# Altium integrated library karman_Integrated_Library.IntLib: 101 symbols (part 2 of 3)
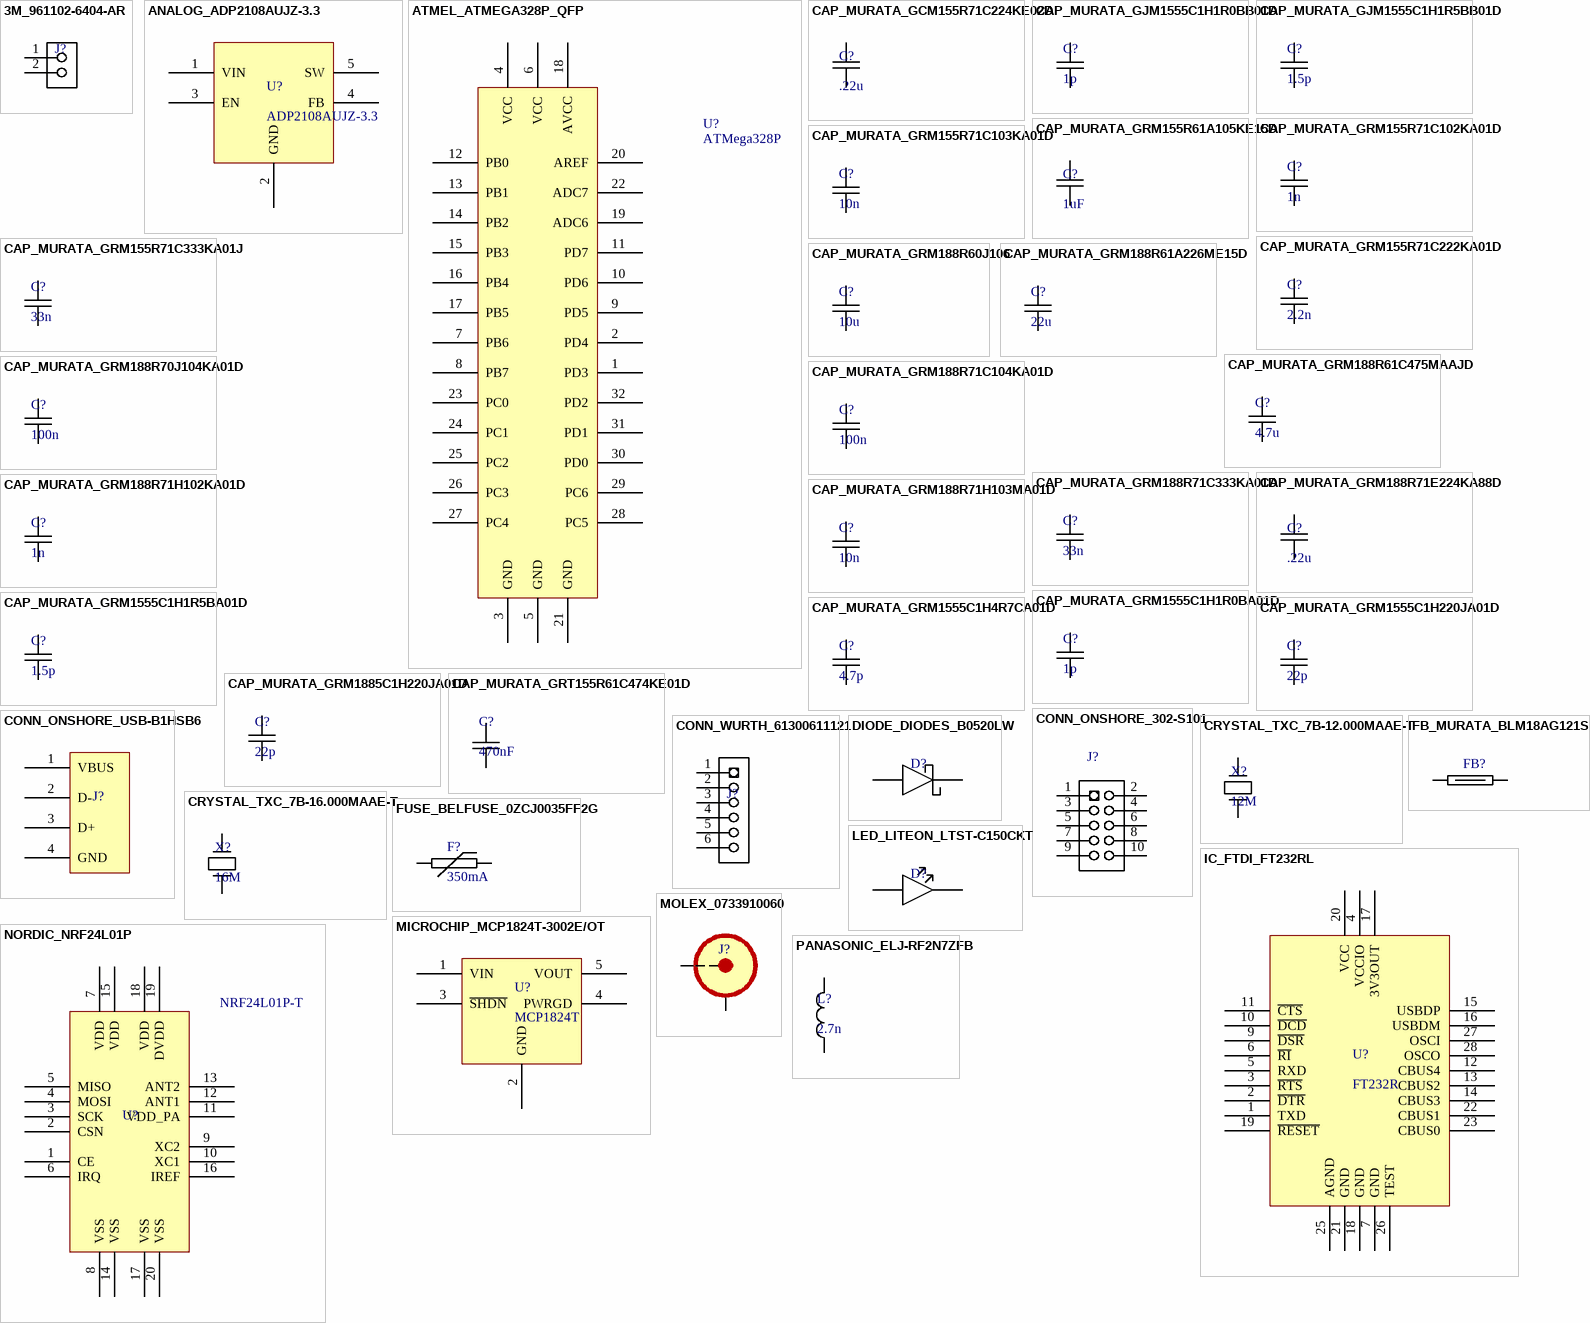
[diagram p4: symbols 3M_961102-6404-AR to PANASONIC_ELJ-RF2N7ZFB]

## CAP_MURATA_GRM155R71C102KA01D
designator C?, comment 1n
CAP CER 1000PF 16V 10% X7R 0402; Manufacturer: Murata Electronics North America; Manufacturer Part Number: GRM155R71C102KA01D; Temperature Coefficient: X7R; Thickness (Max): 0.022" (0.55mm); Packaging: Cut Tape (CT); Category: Capacitors; Applications: General Purpose; Features: -; Ratings: -; RoHS: RoHS Compliant; Supplier: Digi-Key; Capacitance: 1000pF; Lead Style: *; Size / Dimension: 0.039" L x 0.020" W (1.00mm x 0.50mm); Package / Case: 0402 (1005 Metric); Mounting Type: Surface Mount, MLCC; Operating Temperature: -55°C ~ 125°C; Supplier Part Number: 490-6325-1-ND; Height - Seated (Max): -; Tolerance: ±10%; Voltage - Rated: 16V; Lead Spacing: -
footprint MURATA_GRM_0402 (0402 Chip Capacitor)
pins: 1, 2

## CAP_MURATA_GRM155R71C103KA01D
designator C?, comment 10n
CAP CER 10000PF 16V 10% X7R 0402; Manufacturer: Murata Electronics North America; Manufacturer Part Number: GRM155R71C103KA01D; Supplier 1: Digi-Key; Supplier Part Number 1: 490-1313-1-ND; RoHS: RoHS Compliant; Category: Capacitors; Stock 1: 2877462; Pricing: 1=0.1, 10=0.012, 50=0.0066, 100=0.0057, 250=0.00464, 500=0.00396, 1000=0.00309, 5000=0.00258 (USD); Packaging: Cut Tape (CT); Capacitance: 10000pF; Tolerance: ±10%; Voltage - Rated: 16V; Temperature Coefficient: X7R; Mounting Type: Surface Mount, MLCC; Operating Temperature: -55°C ~ 125°C; Applications: General Purpose; Ratings: -; Package / Case: 0402 (1005 Metric); Size / Dimension: 0.039" L x 0.020" W (1.00mm x 0.50mm); Height - Seated (Max): -; Thickness (Max): 0.022" (0.55mm); Lead Spacing: -; Features: -; Lead Style: -; ComponentLink1URL: http://www.murata.com/~/media/webrenewal/support/library/catalog/products/capacitor/mlcc/c02e.ashx; ComponentLink1Description: http://www.murata.com/~/media/webrenewal/support/library/catalog/products/capacitor/mlcc/c02e.ashx
footprint MURATA_GRM_0402 (0402 Chip Capacitor)
pins: 1, 2

## CAP_MURATA_GRM155R71C222KA01D
designator C?, comment 2.2n
CAP CER 2200PF 16V 10% X7R 0402; Manufacturer: Murata Electronics North America; Manufacturer Part Number: GRM155R71C222KA01D; Supplier 1: Digi-Key; Supplier Part Number 1: 490-6330-1-ND; RoHS: RoHS Compliant; Category: Capacitors; Stock 1: 28283; Pricing: 1=0.1, 10=0.023, 25=0.016, 50=0.0124, 100=0.0105, 250=0.00856, 500=0.00732, 1000=0.0057, 5000=0.00475 (USD); Packaging: Cut Tape (CT); Capacitance: 2200pF; Tolerance: ±10%; Voltage - Rated: 16V; Temperature Coefficient: X7R; Mounting Type: Surface Mount, MLCC; Operating Temperature: -55°C ~ 125°C; Applications: General Purpose; Ratings: -; Package / Case: 0402 (1005 Metric); Size / Dimension: 0.039" L x 0.020" W (1.00mm x 0.50mm); Height - Seated (Max): -; Thickness (Max): 0.022" (0.55mm); Lead Spacing: -; Features: -; Lead Style: *; ComponentLink1URL: http://www.murata.com/~/media/webrenewal/support/library/catalog/products/capacitor/mlcc/c02e.ashx; ComponentLink1Description: http://www.murata.com/~/media/webrenewal/support/library/catalog/products/capacitor/mlcc/c02e.ashx
footprint MURATA_GRM_0402 (0402 Chip Capacitor)
pins: 1, 2

## CAP_MURATA_GRM155R71C333KA01J
designator C?, comment 33n
CAP CER 0.033UF 16V 10% X7R 0402; Manufacturer: Murata Electronics North America; Manufacturer Part Number: GRM155R71C333KA01J; Capacitance: 0.033µF; Supplier 1: Digi-Key; Supplier Part Number 1: 490-6333-1-ND; RoHS: RoHS Compliant; Category: Capacitors; Stock 1: 72036; Pricing: 1=0.1, 10=0.04, 50=0.0218, 100=0.0185, 250=0.01516, 500=0.01296, 1000=0.0099, 5000=0.00825, 10000=0.00759 (USD); Packaging: Cut Tape (CT); Tolerance: ±10%; Voltage - Rated: 16V; Temperature Coefficient: X7R; Mounting Type: Surface Mount, MLCC; Operating Temperature: -55°C ~ 125°C; Applications: General Purpose; Ratings: -; Package / Case: 0402 (1005 Metric); Size / Dimension: 0.039" L x 0.020" W (1.00mm x 0.50mm); Height - Seated (Max): -; Thickness (Max): 0.022" (0.55mm); Lead Spacing: -; Features: -; Lead Style: *; ComponentLink1URL: http://www.murata.com/~/media/webrenewal/support/library/catalog/products/capacitor/mlcc/c02e.ashx; ComponentLink1Description: http://www.murata.com/~/media/webrenewal/support/library/catalog/products/capacitor/mlcc/c02e.ashx
footprint MURATA_GRM_0402 (0402 Chip Capacitor)
pins: 1, 2

## CAP_MURATA_GRM188R60J106
designator C?, comment 10u
CAP CER 10UF 6.3V 20% X5R 0603; Manufacturer: Murata Electronics North America; Manufacturer Part Number: GRM188R60J106ME47J; Capacitance: 10µF; Supplier 1: Digi-Key; Supplier Part Number 1: 490-6405-1-ND; RoHS: RoHS Compliant; Category: Capacitors; Stock 1: 159118; Pricing: 1=0.19, 10=0.128, 50=0.0776, 100=0.0651, 250=0.05272, 500=0.0465, 1000=0.03953, 5000=0.03333 (USD); Packaging: Cut Tape (CT); Tolerance: ±20%; Voltage - Rated: 6.3V; Temperature Coefficient: X5R; Mounting Type: Surface Mount, MLCC; Operating Temperature: -55°C ~ 85°C; Applications: General Purpose; Ratings: -; Package / Case: 0603 (1608 Metric); Size / Dimension: 0.063" L x 0.031" W (1.60mm x 0.80mm); Height - Seated (Max): -; Thickness (Max): 0.035" (0.90mm); Lead Spacing: -; Features: -; Lead Style: -; ComponentLink1URL: http://www.murata.com/~/media/webrenewal/support/library/catalog/products/capacitor/mlcc/c02e.ashx; ComponentLink1Description: http://www.murata.com/~/media/webrenewal/support/library/catalog/products/capacitor/mlcc/c02e.ashx
footprint MURATA_GRM_0603 (Chip Capacitor, 0603)
pins: 1, 2

## CAP_MURATA_GRM188R61A226ME15D
designator C?, comment 22u
CAP CER 22UF 10V 20% X5R 0603; Manufacturer: Murata Electronics North America; Manufacturer Part Number: GRM188R61A226ME15D; Capacitance: 22µF; Supplier 1: Digi-Key; Supplier Part Number 1: 490-10476-1-ND; RoHS: RoHS Compliant; Category: Capacitors; Stock 1: 2895; Pricing: 1=0.3, 10=0.249, 25=0.1712, 50=0.14, 100=0.1244, 250=0.09332, 500=0.08242, 1000=0.07309 (USD); Packaging: Cut Tape (CT); Tolerance: ±20%; Voltage - Rated: 10V; Temperature Coefficient: X5R; Mounting Type: Surface Mount, MLCC; Operating Temperature: -55°C ~ 85°C; Applications: General Purpose; Ratings: -; Package / Case: 0603 (1608 Metric); Size / Dimension: 0.063" L x 0.031" W (1.60mm x 0.80mm); Height - Seated (Max): -; Thickness (Max): 0.039" (1.00mm); Lead Spacing: -; Features: -; Lead Style: -; ComponentLink1URL: http://www.murata.com/~/media/webrenewal/support/library/catalog/products/capacitor/mlcc/c02e.ashx; ComponentLink1Description: http://www.murata.com/~/media/webrenewal/support/library/catalog/products/capacitor/mlcc/c02e.ashx
footprint MURATA_GRM_0603 (Chip Capacitor, 0603)
pins: 1, 2

## CAP_MURATA_GRM188R61C475MAAJD
designator C?, comment 4.7u
CAP CER 4.7UF 16V 20% X5R 0603; Manufacturer: Murata Electronics North America; Manufacturer Part Number: GRM188R61C475MAAJD; Capacitance: 4.7µF; Supplier 1: Digi-Key; Supplier Part Number 1: 490-10482-1-ND; RoHS: RoHS Compliant; Category: Capacitors; Stock 1: 3465; Pricing: 1=0.3, 10=0.251, 25=0.1728, 50=0.1414, 100=0.1256, 250=0.0942, 500=0.08322, 1000=0.07379 (USD); Packaging: Cut Tape (CT); Tolerance: ±20%; Voltage - Rated: 16V; Temperature Coefficient: X5R; Mounting Type: Surface Mount, MLCC; Operating Temperature: -55°C ~ 85°C; Applications: General Purpose; Ratings: -; Package / Case: 0603 (1608 Metric); Size / Dimension: 0.063" L x 0.031" W (1.60mm x 0.80mm); Height - Seated (Max): -; Thickness (Max): 0.037" (0.95mm); Lead Spacing: -; Features: -; Lead Style: -; ComponentLink1URL: http://www.murata.com/~/media/webrenewal/support/library/catalog/products/capacitor/mlcc/c02e.ashx; ComponentLink1Description: http://www.murata.com/~/media/webrenewal/support/library/catalog/products/capacitor/mlcc/c02e.ashx
footprint MURATA_GRM_0603 (Chip Capacitor, 0603)
pins: 1, 2

## CAP_MURATA_GRM188R70J104KA01D
designator C?, comment 100n
CAP CER 0.1UF 6.3V 10% X7R 0603; Manufacturer: Murata Electronics North America; Manufacturer Part Number: GRM188R70J104KA01D; Capacitance: 0.1µF; Supplier 1: Digi-Key; Supplier Part Number 1: 490-9730-1-ND; RoHS: RoHS Compliant; Category: Capacitors; Stock 1: 25826; Pricing: 1=0.1, 10=0.061, 50=0.0332, 100=0.0281, 250=0.02296, 500=0.01964, 1000=0.0153 (USD); Packaging: Cut Tape (CT); Tolerance: ±10%; Voltage - Rated: 6.3V; Temperature Coefficient: X7R; Mounting Type: Surface Mount, MLCC; Operating Temperature: -55°C ~ 125°C; Applications: General Purpose; Ratings: -; Package / Case: 0603 (1608 Metric); Size / Dimension: 0.063" L x 0.031" W (1.60mm x 0.80mm); Height - Seated (Max): -; Thickness (Max): 0.035" (0.90mm); Lead Spacing: -; Features: -; Lead Style: -; ComponentLink1URL: http://www.murata.com/~/media/webrenewal/support/library/catalog/products/capacitor/mlcc/c02e.ashx; ComponentLink1Description: http://www.murata.com/~/media/webrenewal/support/library/catalog/products/capacitor/mlcc/c02e.ashx
footprint MURATA_GRM_0603 (Chip Capacitor, 0603)
pins: 1, 2

## CAP_MURATA_GRM188R71C104KA01D
designator C?, comment 100n
CAP CER 0.1UF 16V 10% X7R 0603; Manufacturer: Murata Electronics North America; Manufacturer Part Number: GRM188R71C104KA01D; Capacitance: 0.1µF; Supplier 1: Digi-Key; Supplier Part Number 1: 490-1532-1-ND; RoHS: RoHS Compliant; Category: Capacitors; Stock 1: 2486193; Pricing: 1=0.1, 10=0.019, 50=0.0102, 100=0.0086, 250=0.00704, 500=0.006, 1000=0.00468 (USD); Packaging: Cut Tape (CT); Tolerance: ±10%; Voltage - Rated: 16V; Temperature Coefficient: X7R; Mounting Type: Surface Mount, MLCC; Operating Temperature: -55°C ~ 125°C; Applications: General Purpose; Ratings: -; Package / Case: 0603 (1608 Metric); Size / Dimension: 0.063" L x 0.031" W (1.60mm x 0.80mm); Height - Seated (Max): -; Thickness (Max): 0.035" (0.90mm); Lead Spacing: -; Features: -; Lead Style: -; ComponentLink1URL: http://www.murata.com/~/media/webrenewal/support/library/catalog/products/capacitor/mlcc/c02e.ashx; ComponentLink1Description: http://www.murata.com/~/media/webrenewal/support/library/catalog/products/capacitor/mlcc/c02e.ashx
footprint MURATA_GRM_0603 (Chip Capacitor, 0603)
pins: 1, 2

## CAP_MURATA_GRM188R71C333KA01D
designator C?, comment 33n
CAP CER 0.033UF 16V 10% X7R 0603; Manufacturer: Murata Electronics North America; Manufacturer Part Number: GRM188R71C333KA01D; Capacitance: 0.033µF; Supplier 1: Digi-Key; Supplier Part Number 1: 490-1528-1-ND; RoHS: RoHS Compliant; Category: Capacitors; Stock 1: 112656; Pricing: 1=0.1, 10=0.054, 50=0.0292, 100=0.0248, 250=0.02024, 500=0.01732, 1000=0.0135 (USD); Packaging: Cut Tape (CT); Tolerance: ±10%; Voltage - Rated: 16V; Temperature Coefficient: X7R; Mounting Type: Surface Mount, MLCC; Operating Temperature: -55°C ~ 125°C; Applications: General Purpose; Ratings: -; Package / Case: 0603 (1608 Metric); Size / Dimension: 0.063" L x 0.031" W (1.60mm x 0.80mm); Height - Seated (Max): -; Thickness (Max): 0.035" (0.90mm); Lead Spacing: -; Features: -; Lead Style: -; ComponentLink1URL: http://www.murata.com/~/media/webrenewal/support/library/catalog/products/capacitor/mlcc/c02e.ashx; ComponentLink1Description: http://www.murata.com/~/media/webrenewal/support/library/catalog/products/capacitor/mlcc/c02e.ashx
footprint MURATA_GRM_0603 (Chip Capacitor, 0603)
pins: 1, 2

## CAP_MURATA_GRM188R71E224KA88D
designator C?, comment .22u
CAP CER 0.22UF 25V 10% X7R 0603; Manufacturer: Murata Electronics North America; Manufacturer Part Number: GRM188R71E224KA88D; Capacitance: 0.22µF; Supplier 1: Digi-Key; RoHS: RoHS Compliant; Category: Capacitors; Stock 1: 267892; Pricing 1: 1=0.14, 10=0.098, 50=0.0564, 100=0.0466, 250=0.0392, 500=0.03284, 1000=0.02695 (USD); Packaging: Cut Tape (CT); Tolerance: ±10%; Voltage - Rated: 25V; Temperature Coefficient: X7R; Mounting Type: Surface Mount, MLCC; Operating Temperature: -55°C ~ 125°C; Applications: General Purpose; Ratings: -; Package / Case: 0603 (1608 Metric); Size / Dimension: 0.063" L x 0.031" W (1.60mm x 0.80mm); Height - Seated (Max): -; Thickness (Max): 0.035" (0.90mm); Lead Spacing: -; Features: -; Lead Style: -; ComponentLink1URL: http://www.murata.com/~/media/webrenewal/support/library/catalog/products/capacitor/mlcc/c02e.ashx; ComponentLink1Description: http://www.murata.com/~/media/webrenewal/support/library/catalog/products/capacitor/mlcc/c02e.ashx; Supplier Part Number 1: 490-3290-1-ND
footprint MURATA_GRM_0603 (Chip Capacitor, 0603)
pins: 1, 2

## CAP_MURATA_GRM188R71H102KA01D
designator C?, comment 1n
CAP CER 1000PF 50V 10% X7R 0603; Manufacturer: Murata Electronics North America; Manufacturer Part Number: GRM188R71H102KA01D; Supplier 1: Digi-Key; Supplier Part Number 1: 490-1494-1-ND; RoHS: RoHS Compliant; Category: Capacitors; Stock 1: 1211591; Pricing: 1=0.1, 10=0.02, 50=0.0108, 100=0.0091, 250=0.00744, 500=0.00636, 1000=0.00495 (USD); Packaging: Cut Tape (CT); Capacitance: 1000pF; Tolerance: ±10%; Voltage - Rated: 50V; Temperature Coefficient: X7R; Mounting Type: Surface Mount, MLCC; Operating Temperature: -55°C ~ 125°C; Applications: General Purpose; Ratings: -; Package / Case: 0603 (1608 Metric); Size / Dimension: 0.063" L x 0.031" W (1.60mm x 0.80mm); Height - Seated (Max): -; Thickness (Max): 0.035" (0.90mm); Lead Spacing: -; Features: -; Lead Style: -; ComponentLink1URL: http://www.murata.com/~/media/webrenewal/support/library/catalog/products/capacitor/mlcc/c02e.ashx; ComponentLink1Description: http://www.murata.com/~/media/webrenewal/support/library/catalog/products/capacitor/mlcc/c02e.ashx
footprint MURATA_GRM_0603 (Chip Capacitor, 0603)
pins: 1, 2

## CAP_MURATA_GRM188R71H103MA01D
designator C?, comment 10n
CAP CER 10000PF 50V 20% X7R 0603; Manufacturer: Murata Electronics North America; Manufacturer Part Number: GRM188R71H103MA01D; Supplier 1: Digi-Key; Supplier Part Number 1: 490-1511-1-ND; RoHS: RoHS Compliant; Category: Capacitors; Stock 1: 188245; Pricing: 1=0.1, 10=0.018, 50=0.0098, 100=0.0083, 250=0.00676, 500=0.00578, 1000=0.0045 (USD); Packaging: Cut Tape (CT); Capacitance: 10000pF; Tolerance: ±20%; Voltage - Rated: 50V; Temperature Coefficient: X7R; Mounting Type: Surface Mount, MLCC; Operating Temperature: -55°C ~ 125°C; Applications: General Purpose; Ratings: -; Package / Case: 0603 (1608 Metric); Size / Dimension: 0.063" L x 0.031" W (1.60mm x 0.80mm); Height - Seated (Max): -; Thickness (Max): 0.035" (0.90mm); Lead Spacing: -; Features: -; Lead Style: -; ComponentLink1URL: http://www.murata.com/~/media/webrenewal/support/library/catalog/products/capacitor/mlcc/c02e.ashx; ComponentLink1Description: http://www.murata.com/~/media/webrenewal/support/library/catalog/products/capacitor/mlcc/c02e.ashx
footprint MURATA_GRM_0603 (Chip Capacitor, 0603)
pins: 1, 2

## CAP_MURATA_GRM1555C1H1R0BA01D
designator C?, comment 1p
CAP CER 1PF 50V NP0 0402; Manufacturer: Murata Electronics North America; Manufacturer Part Number: GRM1555C1H1R0BA01D; Tolerance: ±0.1pF; Temperature Coefficient: C0G, NP0; Supplier 1: Digi-Key; Supplier Part Number 1: 490-6206-1-ND; RoHS: RoHS Compliant; Category: Capacitors; Stock 1: 114290; Pricing: 1=0.1, 10=0.044, 50=0.0238, 100=0.0202, 250=0.01652, 500=0.01414, 1000=0.0108, 5000=0.009 (USD); Packaging: Cut Tape (CT); Capacitance: 1pF; Voltage - Rated: 50V; Mounting Type: Surface Mount, MLCC; Operating Temperature: -55°C ~ 125°C; Applications: General Purpose; Ratings: -; Package / Case: 0402 (1005 Metric); Size / Dimension: 0.039" L x 0.020" W (1.00mm x 0.50mm); Height - Seated (Max): -; Thickness (Max): 0.022" (0.55mm); Lead Spacing: -; Features: -; Lead Style: -; ComponentLink1URL: http://www.murata.com/~/media/webrenewal/support/library/catalog/products/capacitor/mlcc/c02e.ashx; ComponentLink1Description: http://www.murata.com/~/media/webrenewal/support/library/catalog/products/capacitor/mlcc/c02e.ashx
footprint MURATA_GRM_0402 (0402 Chip Capacitor)
pins: 1, 2

## CAP_MURATA_GRM1555C1H1R5BA01D
designator C?, comment 1.5p
CAP CER 1.5PF 50V NP0 0402; Manufacturer: Murata Electronics North America; Manufacturer Part Number: GRM1555C1H1R5BA01D; Tolerance: ±0.1pF; Temperature Coefficient: C0G, NP0; Supplier 1: Digi-Key; Supplier Part Number 1: 490-6212-1-ND; RoHS: RoHS Compliant; Category: Capacitors; Stock 1: 204956; Pricing: 1=0.1, 10=0.043, 50=0.0234, 100=0.0198, 250=0.0162, 500=0.01386, 1000=0.0108, 5000=0.009 (USD); Packaging: Cut Tape (CT); Capacitance: 1.5pF; Voltage - Rated: 50V; Mounting Type: Surface Mount, MLCC; Operating Temperature: -55°C ~ 125°C; Applications: General Purpose; Ratings: -; Package / Case: 0402 (1005 Metric); Size / Dimension: 0.039" L x 0.020" W (1.00mm x 0.50mm); Height - Seated (Max): -; Thickness (Max): 0.022" (0.55mm); Lead Spacing: -; Features: -; Lead Style: -; ComponentLink1URL: http://www.murata.com/~/media/webrenewal/support/library/catalog/products/capacitor/mlcc/c02e.ashx; ComponentLink1Description: http://www.murata.com/~/media/webrenewal/support/library/catalog/products/capacitor/mlcc/c02e.ashx
footprint MURATA_GRM_0402 (0402 Chip Capacitor)
pins: 1, 2

## CAP_MURATA_GRM1555C1H4R7CA01D
designator C?, comment 4.7p
CAP CER 4.7PF 50V NP0 0402; Manufacturer: Murata Electronics North America; Manufacturer Part Number: GRM1555C1H4R7CA01D; Tolerance: ±0.25pF; Temperature Coefficient: C0G, NP0; Supplier 1: Digi-Key; Supplier Part Number 1: 490-5874-1-ND; RoHS: RoHS Compliant; Category: Capacitors; Stock 1: 317555; Pricing: 1=0.1, 10=0.021, 50=0.0114, 100=0.0096, 250=0.00788, 500=0.00674, 1000=0.00525, 5000=0.00438 (USD); Packaging: Cut Tape (CT); Capacitance: 4.7pF; Voltage - Rated: 50V; Mounting Type: Surface Mount, MLCC; Operating Temperature: -55°C ~ 125°C; Applications: General Purpose; Ratings: -; Package / Case: 0402 (1005 Metric); Size / Dimension: 0.039" L x 0.020" W (1.00mm x 0.50mm); Height - Seated (Max): -; Thickness (Max): 0.022" (0.55mm); Lead Spacing: -; Features: -; Lead Style: -; ComponentLink1URL: http://www.murata.com/~/media/webrenewal/support/library/catalog/products/capacitor/mlcc/c02e.ashx; ComponentLink1Description: http://www.murata.com/~/media/webrenewal/support/library/catalog/products/capacitor/mlcc/c02e.ashx
footprint MURATA_GRM_0402 (0402 Chip Capacitor)
pins: 1, 2

## CAP_MURATA_GRM1555C1H220JA01D
designator C?, comment 22p
CAP CER 22PF 50V 5% NP0 0402; Manufacturer: Murata Electronics North America; Manufacturer Part Number: GRM1555C1H220JA01D; Temperature Coefficient: C0G, NP0; Supplier 1: Digi-Key; Supplier Part Number 1: 490-5868-1-ND; RoHS: RoHS Compliant; Category: Capacitors; Stock 1: 1716969; Pricing: 1=0.1, 10=0.013, 50=0.007, 100=0.0059, 250=0.00488, 500=0.00416, 1000=0.00324, 5000=0.0027 (USD); Packaging: Cut Tape (CT); Capacitance: 22pF; Tolerance: ±5%; Voltage - Rated: 50V; Mounting Type: Surface Mount, MLCC; Operating Temperature: -55°C ~ 125°C; Applications: General Purpose; Ratings: -; Package / Case: 0402 (1005 Metric); Size / Dimension: 0.039" L x 0.020" W (1.00mm x 0.50mm); Height - Seated (Max): -; Thickness (Max): 0.022" (0.55mm); Lead Spacing: -; Features: -; Lead Style: -; ComponentLink1URL: http://www.murata.com/~/media/webrenewal/support/library/catalog/products/capacitor/mlcc/c02e.ashx; ComponentLink1Description: http://www.murata.com/~/media/webrenewal/support/library/catalog/products/capacitor/mlcc/c02e.ashx
footprint MURATA_GRM_0402 (0402 Chip Capacitor)
pins: 1, 2

## CAP_MURATA_GRM1885C1H220JA01D
designator C?, comment 22p
CAP CER 22PF 50V 5% NP0 0603; Manufacturer: Murata Electronics North America; Manufacturer Part Number: GRM1885C1H220JA01D; Temperature Coefficient: C0G, NP0; Supplier 1: Digi-Key; Supplier Part Number 1: 490-1411-1-ND; RoHS: RoHS Compliant; Category: Capacitors; Stock 1: 287854; Pricing: 1=0.1, 10=0.041, 50=0.0222, 100=0.0188, 250=0.0154, 500=0.01316, 1000=0.01026 (USD); Packaging: Cut Tape (CT); Capacitance: 22pF; Tolerance: ±5%; Voltage - Rated: 50V; Mounting Type: Surface Mount, MLCC; Operating Temperature: -55°C ~ 125°C; Applications: General Purpose; Ratings: -; Package / Case: 0603 (1608 Metric); Size / Dimension: 0.063" L x 0.031" W (1.60mm x 0.80mm); Height - Seated (Max): -; Thickness (Max): 0.035" (0.90mm); Lead Spacing: -; Features: -; Lead Style: -; ComponentLink1URL: http://www.murata.com/~/media/webrenewal/support/library/catalog/products/capacitor/mlcc/c02e.ashx; ComponentLink1Description: http://www.murata.com/~/media/webrenewal/support/library/catalog/products/capacitor/mlcc/c02e.ashx
footprint MURATA_GRM_0603 (Chip Capacitor, 0603)
pins: 1, 2

## CAP_MURATA_GRT155R61C474KE01D
designator C?, comment 470nF
CAP CER 0.47UF 16V 10% X5R 0402; Manufacturer: Murata Electronics North America; Manufacturer Part Number: GRT155R61C474KE01D; Capacitance: 0.47µF; Supplier 1: Digi-Key; RoHS: RoHS Compliant; Category: Capacitors; Stock 1: 0; Pricing 1: 10000=0.01176, 20000=0.0112, 30000=0.01064, 50000=0.00952, 100000=0.0077 (USD); Packaging: Tape & Reel (TR); Tolerance: ±10%; Voltage - Rated: 16V; Temperature Coefficient: X5R; Mounting Type: Surface Mount, MLCC; Operating Temperature: -55°C ~ 85°C; Applications: Automotive; Ratings: AEC-Q200; Package / Case: 0402 (1005 Metric); Size / Dimension: 0.039" L x 0.020" W (1.00mm x 0.50mm); Height - Seated (Max): -; Thickness (Max): 0.022" (0.55mm); Lead Spacing: -; Features: -; Lead Style: -; ComponentLink1URL: http://search.murata.co.jp/Ceramy/image/img/A01X/G101/ENG/GRT155R61C474KE01-01.pdf; ComponentLink1Description: http://search.murata.co.jp/Ceramy/image/img/A01X/G101/ENG/GRT155R61C474KE01-01.pdf; Supplier Part Number 1: 490-12261-2-ND
footprint MURATA_GRM_0402 (0402 Chip Capacitor)
pins: 1, 2

## CONN_ONSHORE_302-S101
designator J?  (value not drawn)
CONN HEADER VERT 10POS GOLD; Manufacturer: On Shore Technology Inc; Manufacturer Part Number: 302-S101; Connector Type: Header, Shrouded; Number of Positions: 10; Number of Positions Loaded: All; Pitch: 0.100" (2.54mm); Supplier 1: Digi-Key; Supplier Part Number 1: ED1543-ND; RoHS: RoHS Compliant; Category: Connectors, Interconnects; Stock 1: 40779; Pricing: 1=0.28, 10=0.263, 50=0.1912, 100=0.1838, 250=0.165, 500=0.1575, 1000=0.13125, 2500=0.12, 5000=0.1125 (USD); Packaging: Tray; Contact Type: Male Pin; Number of Rows: 2; Row Spacing: 0.100" (2.54mm); Contact Mating Length: -; Mounting Type: Through Hole; Termination: Solder; Fastening Type: -; Features: -; Contact Finish: Gold; Contact Finish Thickness: Flash; Color: Black; ComponentLink1URL: http://www.on-shore.com/sites/default/files/manuals/302-sxxx.pdf; ComponentLink1Description: http://www.on-shore.com/sites/default/files/manuals/302-sxxx.pdf
footprint ONSHORE_302-S101 (2x5, 2.54mm pitch, connector)
pins: 1, 2, 3, 4, 5, 6, 7, 8, 9, 10

## CONN_ONSHORE_USB-B1HSB6
designator J?  (value not drawn)
CONN USB TYPE B R/A BLACK; Manufacturer: On Shore Technology Inc; Connector Type: USB - B; Number of Contacts: 4; Gender: Receptacle; Supplier 1: Digi-Key; Supplier Part Number 1: ED2983-ND; Manufacturer Part Number: USB-B1HSB6; RoHS: RoHS Compliant; Category: Connectors, Interconnects; Stock 1: 3776; Pricing: 1=0.58, 10=0.546, 25=0.4916, 50=0.4368, 100=0.4186, 250=0.3822, 500=0.364, 1000=0.3003, 2500=0.273 (USD); Packaging: Tray; Specifications: -; Mounting Type: Through Hole, Right Angle, Horizontal; Features: -; Ingress Protection: -; ComponentLink1URL: http://www.on-shore.com/sites/default/files/manuals/usb-b1hsxx.pdf; ComponentLink1Description: http://www.on-shore.com/sites/default/files/manuals/usb-b1hsxx.pdf
footprint ONSHORE_USB-B1HSB6 (USB, Type B)
pins: 1 VBUS, 2 D-, 3 D+, 4 GND

## CONN_WURTH_61300611121
designator J?  (value not drawn)
CONN HEADER 6 POS 2.54; Manufacturer: Wurth Electronics Inc; Manufacturer Part Number: 61300611121; Connector Type: Header, Unshrouded; Number of Positions: 6; Number of Positions Loaded: All; Pitch: 0.100" (2.54mm); Supplier 1: Digi-Key; Supplier Part Number 1: 732-5319-ND; RoHS: RoHS Compliant; Category: Connectors, Interconnects; Stock 1: 1064; Pricing: 1=0.31, 100=0.2808, 500=0.2376 (USD); Packaging: Bulk; Contact Type: Male Pin; Number of Rows: 1; Row Spacing: -; Contact Mating Length: 0.236" (6.00mm); Mounting Type: Through Hole; Termination: Solder; Fastening Type: -; Features: -; Contact Finish: Gold; Contact Finish Thickness: -; Color: Black; ComponentLink1URL: http://katalog.we-online.de/em/datasheet/6130xx11121.pdf; ComponentLink1Description: http://katalog.we-online.de/em/datasheet/6130xx11121.pdf
footprint WURTH_61300611121 (6 position, header)
pins: 1, 2, 3, 4, 5, 6

## CRYSTAL_TXC_7B-12.000MAAE-T
designator X?, comment 12M
Crystal 12.0000MHz 30ppm 12pF 40 Ohm -20°C - 70°C Surface Mount 4-SMD, No Lead (DFN, LCC); Manufacturer: TXC CORPORATION; Manufacturer Part Number: 7B-12.000MAAE-T; Frequency: 12MHz; ESR (Equivalent Series Resistance): 40 Ohm; Operating Mode: Fundamental; Supplier 1: Digi-Key; Supplier Part Number 1: 887-2355-1-ND; RoHS: RoHS Compliant; Category: Crystals and Oscillators; Stock 1: 1829; Pricing: 1=0.71, 10=0.629, 50=0.5876, 100=0.52, 500=0.4914 (USD); Packaging: Cut Tape (CT); Type: MHz Crystal; Frequency Stability: ±30ppm; Frequency Tolerance: ±30ppm; Load Capacitance: 12pF; Operating Temperature: -20°C ~ 70°C; Ratings: -; Mounting Type: Surface Mount; Package / Case: 4-SMD, No Lead (DFN, LCC); Size / Dimension: 0.197" L x 0.126" W (5.00mm x 3.20mm); Height: 0.041" (1.05mm); ComponentLink1URL: http://www.txccrystal.com/images/pdf/7b.pdf; ComponentLink1Description: http://www.txccrystal.com/images/pdf/7b.pdf
footprint TXC_7B_SERIES (Crystal)
pins: PAD hidden to GND, XTAL_N, XTAL_P

## CRYSTAL_TXC_7B-16.000MAAE-T
designator X?, comment 16M
CRYSTAL 16.0000MHZ 12PF SMD; Manufacturer: TXC CORPORATION; Manufacturer Part Number: 7B-16.000MAAE-T; Frequency: 16MHz; Frequency Stability: ±30ppm; ESR (Equivalent Series Resistance): 40 Ohm; Operating Mode: Fundamental; Supplier 1: Digi-Key; Supplier Part Number 1: 887-2358-1-ND; RoHS: RoHS Compliant; Category: Crystals and Oscillators; Stock 1: 1169; Pricing: 1=0.71, 10=0.629, 50=0.5876, 100=0.52, 500=0.4914 (USD); Packaging: Cut Tape (CT); Type: MHz Crystal; Frequency Tolerance: ±30ppm; Load Capacitance: 12pF; Operating Temperature: -20°C ~ 70°C; Ratings: -; Mounting Type: Surface Mount; Package / Case: 4-SMD, No Lead (DFN, LCC); Size / Dimension: 0.197" L x 0.126" W (5.00mm x 3.20mm); Height: 0.041" (1.05mm); ComponentLink1URL: http://www.txccrystal.com/images/pdf/7b.pdf; ComponentLink1Description: http://www.txccrystal.com/images/pdf/7b.pdf
footprint TXC_7B_SERIES (Crystal)
pins: PAD hidden to GND, XTAL_N, XTAL_P

## DIODE_DIODES_B0520LW
designator D?  (value not drawn)
DIODE SCHOTTKY 20V 500MA SOD123; Manufacturer: Diodes Incorporated; Manufacturer Part Number: B0520LW-7-F; Voltage - Forward (Vf) (Max) @ If: 385mV @ 500mA; Speed: Fast Recovery =< 500ns, > 200mA (Io); Current - Reverse Leakage @ Vr: 250µA @ 20V; Capacitance @ Vr, F: 170pF @ 0V, 1MHz; Supplier 1: Digi-Key; Supplier Part Number 1: B0520LW-FDICT-ND; RoHS: RoHS Compliant; Category: Discrete Semiconductor Products; Stock 1: 23024; Pricing: 1=0.34, 10=0.309, 25=0.2224, 100=0.173, 250=0.10872, 500=0.09264, 1000=0.06312 (USD); Packaging: Cut Tape (CT); Diode Type: Schottky; Voltage - DC Reverse (Vr) (Max): 20V; Current - Average Rectified (Io): 500mA; Reverse Recovery Time (trr): -; Mounting Type: Surface Mount; Package / Case: SOD-123; Supplier Device Package: SOD-123; Operating Temperature - Junction: -65°C ~ 125°C; ComponentLink1URL: http://www.diodes.com/datasheets/ds30051.pdf; ComponentLink1Description: http://www.diodes.com/datasheets/ds30051.pdf
footprint DIODES_B0520LW (DIODE SCHOTTKY)
pins: A, K

## FB_MURATA_BLM18AG121SN1D
designator FB?  (value not drawn)
FERRITE CHIP 120 OHM 500MA 0603; Manufacturer: Murata Electronics North America; Impedance @ Frequency: 120 Ohm @ 100MHz; DC Resistance (DCR): 180 mOhm Max; Filter Type: Differential Mode - Single; Supplier 1: Digi-Key; Supplier Part Number 1: 490-1011-1-ND; Manufacturer Part Number: BLM18AG121SN1D; RoHS: RoHS Compliant; Category: Filters; Stock 1: 179737; Pricing: 1=0.1, 10=0.079, 50=0.0648, 100=0.0476, 250=0.0346, 500=0.0317, 1000=0.02738 (USD); Packaging: Cut Tape (CT); Current Rating: 500mA; Package / Case: 0603 (1608 Metric); Mounting Type: Surface Mount; Height (Max): 0.037" (0.95mm); Size / Dimension: 0.063" L x 0.031" W (1.60mm x 0.80mm); ComponentLink1URL: http://search.murata.co.jp/Ceramy/image/img/PDF/ENG/L0110S0100BLM18A.pdf; ComponentLink1Description: http://search.murata.co.jp/Ceramy/image/img/PDF/ENG/L0110S0100BLM18A.pdf
footprint MURATA_BLM18A (Chip Ferrite Bead, 0603)
pins: 1, 2

## FUSE_BELFUSE_0ZCJ0035FF2G
designator F?, comment 350mA
PTC RESTTBLE 0.35A 16V CHIP 1206; Manufacturer: Bel Fuse Inc; Manufacturer Part Number: 0ZCJ0035FF2G; Current - Max: 40A; Current - Trip (It): 750mA; R Min/Max: 0.300 ~ 1.200 Ohm; Time to Trip: 0.1s; Supplier 1: Digi-Key; Supplier Part Number 1: 507-1800-1-ND; RoHS: RoHS Compliant; Category: Circuit Protection; Stock 1: 8842; Pricing: 1=0.12, 10=0.107, 25=0.0992, 100=0.0891, 250=0.0794, 500=0.06616, 1000=0.06269 (USD); Packaging: Cut Tape (CT); Voltage - Max: 16V; Current - Hold (Ih) (Max): 350mA; Package / Case: 1206 (3216 Metric), Concave; ComponentLink1URL: http://www.belfuse.com/pdfs/0ZCJ.pdf; ComponentLink1Description: http://www.belfuse.com/pdfs/0ZCJ.pdf
footprint BELFUSE_0ZCJ (PTC Fuse, 1206)
pins: 1, 2

## IC_FTDI_FT232RL
designator U?, comment FT232R
IC USB FS SERIAL UART 28-SSOP; Manufacturer: FTDI, Future Technology Devices International Ltd; Manufacturer Part Number: FT232RL-REEL; Function: Bridge, USB to UART; Standards: USB 2.0; Voltage - Supply: 3.3 V ~ 5.25 V; Current - Supply: 15mA; Supplier 1: Digi-Key; Supplier Part Number 1: 768-1007-1-ND; RoHS: RoHS Compliant; Category: Integrated Circuits (ICs); Stock 1: 155883; Pricing: 1=4.5, 10=4.05, 50=3.85, 100=3.65, 250=3.25, 500=3.05 (USD); Packaging: Cut Tape (CT); Protocol: USB; Interface: UART; Operating Temperature: -40°C ~ 85°C; Package / Case: 28-SSOP (0.209", 5.30mm Width); Supplier Device Package: 28-SSOP; ComponentLink1URL: http://www.ftdichip.com/Support/Documents/DataSheets/ICs/DS_FT232R.pdf; ComponentLink1Description: http://www.ftdichip.com/Support/Documents/DataSheets/ICs/DS_FT232R.pdf
footprint FTDI_FT323RL (SOP, 28-Leads, USB)
pins: 1 TXD, 2 ~{DTR}, 3 ~{RTS}, 4 VCCIO, 5 RXD, 6 ~{RI}, 7 GND, 8 NC hidden, 9 ~{DSR}, 10 ~{DCD}, 11 ~{CTS}, 12 CBUS4, 13 CBUS2, 14 CBUS3, 15 USBDP, 16 USBDM, 17 3V3OUT, 18 GND, 19 ~{RESET}, 20 VCC, 21 GND, 22 CBUS1, 23 CBUS0, 24 NC hidden, 25 AGND, 26 TEST, 27 OSCI, 28 OSCO

## LED_LITEON_LTST-C150CKT
designator D?  (value not drawn)
LED RED CLEAR 1206 SMD; Manufacturer: Lite-On Inc; Manufacturer Part Number: LTST-C150CKT; Wavelength - Dominant: 638nm; Wavelength - Peak: 660nm; Millicandela Rating: 10mcd; Voltage - Forward (Vf) (Typ): 1.8V; Current - Test: 10mA; Viewing Angle: 130°; Lens Color: Colorless; Lens Style/Size: Rectangle with Flat Top, 2.06mm x 1.60mm; Supplier 1: Digi-Key; Supplier Part Number 1: 160-1167-1-ND; RoHS: RoHS Compliant; Category: Optoelectronics; Stock 1: 90600; Pricing: 1=0.4, 10=0.297, 100=0.1574, 250=0.11136, 500=0.09504, 1000=0.07425 (USD); Packaging: Cut Tape (CT); Color: Red; Lens Transparency: Clear; Package / Case: 1206 (3216 Metric); Supplier Device Package: 1206; Size / Dimension: 3.20mm L x 1.60mm W; Height (Max): 1.10mm; Mounting Type: Surface Mount; ComponentLink1URL: http://optoelectronics.liteon.com/upload/download/DS-22-98-0002/S_110_LTST-C150CKT.pdf; ComponentLink1Description: http://optoelectronics.liteon.com/upload/download/DS-22-98-0002/S_110_LTST-C150CKT.pdf
footprint LITEON_LTST-C150 (1206, Chip LED)
pins: A, K

## MICROCHIP_MCP1824T-3002E/OT
designator U?, comment MCP1824T
IC REG LDO 3V 0.3A SOT23-5; Manufacturer: Microchip Technology; Manufacturer Part Number: MCP1824T-3002E/OT; Regulator Topology: Positive Fixed; Current - Output: 300mA; Voltage - Dropout (Typical): 0.2V @ 300mA; Number of Regulators: 1; Voltage - Input: Up to 6V; Supplier 1: Digi-Key; Supplier Part Number 1: MCP1824T-3002E/OTCT-ND; RoHS: RoHS Compliant; Category: Integrated Circuits (ICs); Stock 1: 1253; Pricing: 1=0.5, 10=0.42, 25=0.35, 100=0.32 (USD); Packaging: Cut Tape (CT); Voltage - Output: 3V; Current - Limit (Min): -; Operating Temperature: -40°C ~ 125°C; Mounting Type: Surface Mount; Package / Case: SC-74A, SOT-753; Supplier Device Package: SOT-23-5; ComponentLink1URL: http://www.microchip.com/mymicrochip/filehandler.aspx?ddocname=en533257; ComponentLink1Description: http://www.microchip.com/mymicrochip/filehandler.aspx?ddocname=en533257
footprint MICROCHIP_MCP1824/OE (LDO Regulator, SOT23)
pins: 1 VIN, 2 GND, 3 ~{SHDN}, 4 PWRGD, 5 VOUT

## MOLEX_0733910060
designator J?  (value not drawn)
CONN SMA JACK STR 50 OHM PCB; Manufacturer: Molex Inc; Connector Type: Jack, Female Socket; Contact Termination: Solder; Impedance: 50 Ohm; Frequency - Max: 18GHz; Body Material: Brass; Body Finish: Gold; Center Contact Material: Beryllium Copper; Dielectric Material: Polytetrafluoroethylene (PTFE); Voltage Rating: 500V; Supplier 1: Digi-Key; Supplier Part Number 1: WM5543-ND; Manufacturer Part Number: 0733910060; RoHS: RoHS Compliant; Category: Connectors, Interconnects; Stock 1: 6663; Pricing: 1=2.99, 10=2.87, 25=2.6308, 50=2.5114, 100=2.3918, 250=2.09284, 500=2.03304, 1000=1.73406, 2500=1.61446 (USD); Packaging: Bulk; Connector Style: SMA; Shield Termination: Solder; Mounting Type: Through Hole; Cable Group: -; Fastening Type: Threaded; Features: -; Housing Color: Gold; Ingress Protection: -; Center Contact Plating: Gold; Operating Temperature: -65°C ~ 165°C; ComponentLink1URL: http://www.molex.com/pdm_docs/sd/733910060_sd.pdf; ComponentLink1Description: http://www.molex.com/pdm_docs/sd/733910060_sd.pdf
footprint MOLEX_0733910060 (SMA Connector)
pins: PIN, SHIELD

## NORDIC_NRF24L01P
designator U?  Manufacturer Part Number: NRF24L01P-T
IC RF TRANSCEIVER 2.4GHZ 20QFN; Manufacturer: Nordic Semiconductor ASA; Data Rate (Max): 2Mbps; Modulation or Protocol: GFSK; Power - Output: 0dBm; Sensitivity: -94dBm; Voltage - Supply: 1.9 V ~ 3.6 V; Current - Receiving: 13.5mA; Current - Transmitting: 11.3mA; Data Interface: PCB, Surface Mount; Supplier 1: Digi-Key; Supplier Part Number 1: 1490-1019-ND; RoHS: RoHS Compliant; Category: RF/IF and RFID; Stock 1: 2933; Pricing: 1=3.39, 10=3.03, 50=2.727, 100=2.4846, 250=2.2422, 500=2.01192, 1000=1.6968, 2500=1.61196, 5000=1.5453 (USD); Packaging: Tray; Frequency: 2.4GHz; Applications: General Purpose; Memory Size: -; Antenna Connector: PCB, Surface Mount; Operating Temperature: -40°C ~ 85°C; Package / Case: 20-VFQFN Exposed Pad; ComponentLink1URL: http://www.nordicsemi.com/eng/content/download/2726/34069/file/nRF24L01P_Product_Specification_1_0.pdf; ComponentLink1Description: http://www.nordicsemi.com/eng/content/download/2726/34069/file/nRF24L01P_Product_Specification_1_0.pdf
footprint NORDIC_nRF24L01P
pins: 1 CE, 2 CSN, 3 SCK, 4 MOSI, 5 MISO, 6 IRQ, 7 VDD, 8 VSS, 9 XC2, 10 XC1, 11 VDD_PA, 12 ANT1, 13 ANT2, 14 VSS, 15 VDD, 16 IREF, 17 VSS, 18 VDD, 19 DVDD, 20 VSS

## PANASONIC_ELJ-RF2N7ZFB
designator L?, comment 2.7n
FIXED IND 2.7NH 400MA 100 MOHM; Manufacturer: Panasonic Electronic Components; Manufacturer Part Number: ELJ-RF2N7ZFB; Type: Multilayer; Material - Core: Non-Magnetic; Tolerance: ±0.2nH; Shielding: Unshielded; DC Resistance (DCR): 100 mOhm Max; Q @ Freq: 8 @ 100MHz; Frequency - Self Resonant: 5.5GHz; Frequency - Test: 100MHz; Supplier 1: Digi-Key; Supplier Part Number 1: PCD1903CT-ND; RoHS: RoHS Compliant; Category: Inductors, Coils, Chokes; Stock 1: 8911; Pricing: 1=0.1, 10=0.097, 50=0.0908, 100=0.0847, 500=0.06656 (USD); Packaging: Cut Tape (CT); Inductance: 2.7nH; Current Rating: 400mA; Current - Saturation: -; Operating Temperature: -20°C ~ 85°C; Mounting Type: Surface Mount; Package / Case: 0402 (1005 Metric); Size / Dimension: 0.040" L x 0.024" W (1.00mm x 0.50mm); Height - Seated (Max): 0.022" (0.55mm); Supplier Device Package: 0402 (1005 Metric); ComponentLink1URL: http://industrial.panasonic.com/www-cgi/jvcr13pz.cgi?E+PZ+3+AGA0024+ELJRF2N7ZFB+7+WW; ComponentLink1Description: http://industrial.panasonic.com/www-cgi/jvcr13pz.cgi?E+PZ+3+AGA0024+ELJRF2N7ZFB+7+WW
footprint PANASONIC_ELJRF (Chip Inductor)
pins: 1, 2

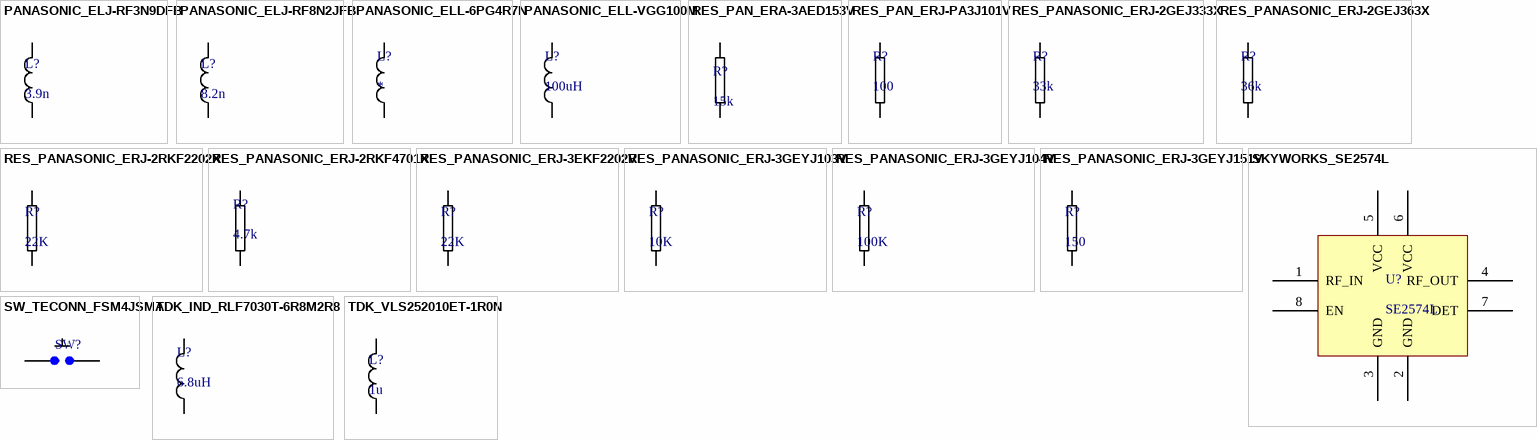
[diagram p3: symbols PANASONIC_ELJ-RF3N9DFB to TDK_VLS252010ET-1R0N]

## PANASONIC_ELJ-RF3N9DFB
designator L?, comment 3.9n
FIXED IND 3.9NH 360MA 150 MOHM; Manufacturer: Panasonic Electronic Components; Manufacturer Part Number: ELJ-RF3N9DFB; Type: Multilayer; Material - Core: Non-Magnetic; Tolerance: ±0.3nH; Shielding: Unshielded; DC Resistance (DCR): 150 mOhm Max; Q @ Freq: 8 @ 100MHz; Frequency - Self Resonant: 5.2GHz; Frequency - Test: 100MHz; Supplier 1: Digi-Key; Supplier Part Number 1: PCD1930CT-ND; RoHS: RoHS Compliant; Category: Inductors, Coils, Chokes; Stock 1: 11359; Pricing: 1=0.08, 10=0.074, 50=0.0698, 100=0.0651, 500=0.05116 (USD); Packaging: Cut Tape (CT); Inductance: 3.9nH; Current Rating: 360mA; Current - Saturation: -; Operating Temperature: -20°C ~ 85°C; Mounting Type: Surface Mount; Package / Case: 0402 (1005 Metric); Size / Dimension: 0.040" L x 0.024" W (1.00mm x 0.50mm); Height - Seated (Max): 0.022" (0.55mm); Supplier Device Package: 0402 (1005 Metric); ComponentLink1URL: http://industrial.panasonic.com/www-cgi/jvcr13pz.cgi?E+PZ+3+AGA0024+ELJRF3N9DFB+7+WW; ComponentLink1Description: http://industrial.panasonic.com/www-cgi/jvcr13pz.cgi?E+PZ+3+AGA0024+ELJRF3N9DFB+7+WW
footprint PANASONIC_ELJRF (Chip Inductor)
pins: 1, 2

## PANASONIC_ELJ-RF8N2JFB
designator L?, comment 8.2n
FIXED IND 8.2NH 320MA 350 MOHM; Manufacturer: Panasonic Electronic Components; Manufacturer Part Number: ELJ-RF8N2JFB; Type: Multilayer; Material - Core: Non-Magnetic; Tolerance: ±5%; Shielding: Unshielded; DC Resistance (DCR): 350 mOhm Max; Q @ Freq: 8 @ 100MHz; Frequency - Self Resonant: 3.5GHz; Frequency - Test: 100MHz; Supplier 1: Digi-Key; Supplier Part Number 1: PCD1934CT-ND; RoHS: RoHS Compliant; Category: Inductors, Coils, Chokes; Stock 1: 26730; Pricing: 1=0.08, 10=0.074, 50=0.0698, 100=0.0651, 500=0.05116 (USD); Packaging: Cut Tape (CT); Inductance: 8.2nH; Current Rating: 320mA; Current - Saturation: -; Operating Temperature: -20°C ~ 85°C; Mounting Type: Surface Mount; Package / Case: 0402 (1005 Metric); Size / Dimension: 0.040" L x 0.024" W (1.00mm x 0.50mm); Height - Seated (Max): 0.022" (0.55mm); Supplier Device Package: 0402 (1005 Metric); ComponentLink1URL: http://industrial.panasonic.com/www-cgi/jvcr13pz.cgi?E+PZ+3+AGA0024+ELJRF8N2JFB+7+WW; ComponentLink1Description: http://industrial.panasonic.com/www-cgi/jvcr13pz.cgi?E+PZ+3+AGA0024+ELJRF8N2JFB+7+WW
footprint PANASONIC_ELJRF (Chip Inductor)
pins: 1, 2

## PANASONIC_ELL-6PG4R7N
designator L?
FIXED IND 4.7UH 1.75A 58 MOHM; Manufacturer: Panasonic Electronic Components; Manufacturer Part Number: ELL-6PG4R7N; Type: Wirewound; Inductance: 4.7µH; Tolerance: ±30%; Current - Saturation: 1.5A; Shielding: Shielded; DC Resistance (DCR): 58 mOhm; Frequency - Test: 100kHz; Supplier 1: Digi-Key; RoHS: RoHS Compliant; Category: Inductors, Coils, Chokes; Stock 1: 6976; Pricing 1: 1=0.82, 10=0.776, 50=0.7276, 100=0.679, 500=0.5335 (USD); Packaging: Cut Tape (CT); Material - Core: -; Current Rating: 1.75A; Q @ Freq: -; Frequency - Self Resonant: -; Operating Temperature: -; Mounting Type: Surface Mount; Package / Case: Nonstandard; Size / Dimension: 0.236" L x 0.236" W (6.00mm x 6.00mm); Height - Seated (Max): 0.079" (2.00mm); Supplier Device Package: -; ComponentLink1URL: http://industrial.panasonic.com/www-cgi/jvcr13pz.cgi?E+PZ+2+AGM0013+0+4+WW; ComponentLink1Description: http://industrial.panasonic.com/www-cgi/jvcr13pz.cgi?E+PZ+2+AGM0013+0+4+WW; Supplier Part Number 1: PCD2262CT-ND
pins: 1, 2

## PANASONIC_ELL-VGG100M
designator L?, comment 100uH
FIXED IND 10UH 730MA 280 MOHM; Manufacturer: Panasonic Electronic Components; Manufacturer Part Number: ELL-VGG100M; Type: Wirewound; Inductance: 10µH; Tolerance: ±20%; Current - Saturation: 800mA; Shielding: Shielded; Frequency - Test: 100kHz; Supplier 1: Digi-Key; RoHS: RoHS Compliant; Category: Inductors, Coils, Chokes; Stock 1: 21071; Pricing 1: 1=0.48, 10=0.455, 50=0.4264, 100=0.398, 500=0.31268 (USD); Packaging: Cut Tape (CT); Material - Core: -; Current Rating: 730mA; DC Resistance (DCR): 280 mOhm; Q @ Freq: -; Frequency - Self Resonant: -; Operating Temperature: -; Mounting Type: Surface Mount; Package / Case: Nonstandard; Size / Dimension: 0.118" L x 0.118" W (3.00mm x 3.00mm); Height - Seated (Max): 0.059" (1.50mm); Supplier Device Package: -; ComponentLink1URL: http://industrial.panasonic.com/www-cgi/jvcr13pz.cgi?E+PZ+2+AGM0001+0+4+WW; ComponentLink1Description: http://industrial.panasonic.com/www-cgi/jvcr13pz.cgi?E+PZ+2+AGM0001+0+4+WW; Supplier Part Number 1: PCD2304CT-ND
pins: 1, 2

## RES_PAN_ERA-3AED153V
designator R?, comment 15k
RES SMD 15K OHM 0.5% 1/10W 0603; Manufacturer: Panasonic Electronic Components; Manufacturer Part Number: ERA-3AED153V; Power (Watts): 0.1W, 1/10W; Temperature Coefficient: ±25ppm/°C; Supplier 1: Digi-Key; RoHS: RoHS Compliant; Category: Resistors; Stock 1: 5000; Pricing 1: 5000=0.01558, 10000=0.01353, 25000=0.01189, 50000=0.01091, 125000=0.01068 (USD); Packaging: Tape & Reel (TR); Resistance (Ohms): 15k; Tolerance: ±0.5%; Composition: Thin Film; Features: Automotive AEC-Q200; Operating Temperature: -55°C ~ 155°C; Package / Case: 0603 (1608 Metric); Supplier Device Package: 0603; Size / Dimension: 0.063" L x 0.031" W (1.60mm x 0.80mm); Height: 0.022" (0.55mm); Number of Terminations: 2; ComponentLink1URL: http://industrial.panasonic.com/lecs/www-data/pdf/AOA0000/AOA0000CE26.pdf; ComponentLink1Description: http://industrial.panasonic.com/lecs/www-data/pdf/AOA0000/AOA0000CE26.pdf; Supplier Part Number 1: P15KBLTR-ND
pins: 1, 2

## RES_PAN_ERJ-PA3J101V
designator R?, comment 100
RES SMD 100 OHM 5% 1/4W 0603; Manufacturer: Panasonic Electronic Components; Manufacturer Part Number: ERJ-PA3J101V; Power (Watts): 0.25W, 1/4W; Temperature Coefficient: ±200ppm/°C; Supplier 1: Digi-Key; RoHS: RoHS Compliant; Category: Resistors; Stock 1: 0; Pricing 1: 5000=0.01156, 10000=0.01037, 25000=0.00952, 50000=0.00894, 125000=0.00874 (USD); Packaging: Tape & Reel (TR); Resistance (Ohms): 100; Tolerance: ±5%; Composition: Thick Film; Features: Automotive AEC-Q200, Pulse Withstanding; Operating Temperature: -55°C ~ 155°C; Package / Case: 0603 (1608 Metric); Supplier Device Package: 0603; Size / Dimension: 0.063" L x 0.031" W (1.60mm x 0.80mm); Height: 0.018" (0.45mm); Number of Terminations: 2; ComponentLink1URL: http://industrial.panasonic.com/www-cgi/jvcr17pz.cgi?E+PZ+4+AOA0004+ERJPA3J101V+WW; ComponentLink1Description: http://industrial.panasonic.com/www-cgi/jvcr17pz.cgi?E+PZ+4+AOA0004+ERJPA3J101V+WW; Supplier Part Number 1: P100BZTR-ND
pins: 1, 2

## RES_PANASONIC_ERJ-2GEJ333X
designator R?, comment 33k
RES SMD 33K OHM 5% 1/10W 0402; Manufacturer: Panasonic Electronic Components; Manufacturer Part Number: ERJ-2GEJ333X; Power (Watts): 0.1W, 1/10W; Temperature Coefficient: ±200ppm/°C; Supplier 1: Digi-Key; RoHS: RoHS Compliant; Category: Resistors; Stock 1: 860000; Pricing 1: 10000=0.00198, 30000=0.00174, 50000=0.0016, 100000=0.00156 (USD); Packaging: Tape & Reel (TR); Resistance (Ohms): 33k; Tolerance: ±5%; Composition: Thick Film; Features: Automotive AEC-Q200; Operating Temperature: -55°C ~ 155°C; Package / Case: 0402 (1005 Metric); Supplier Device Package: 0402; Size / Dimension: 0.039" L x 0.020" W (1.00mm x 0.50mm); Height: 0.016" (0.40mm); Number of Terminations: 2; ComponentLink1URL: http://industrial.panasonic.com/www-cgi/jvcr13pz.cgi?E+PZ+3+AOA0001+ERJ2GEJ333X+7+WW; ComponentLink1Description: http://industrial.panasonic.com/www-cgi/jvcr13pz.cgi?E+PZ+3+AOA0001+ERJ2GEJ333X+7+WW; Supplier Part Number 1: P33KJTR-ND
pins: 1, 2

## RES_PANASONIC_ERJ-2GEJ363X
designator R?, comment 36k
RES SMD 36K OHM 5% 1/10W 0402; Manufacturer: Panasonic Electronic Components; Manufacturer Part Number: ERJ-2GEJ363X; Power (Watts): 0.1W, 1/10W; Temperature Coefficient: ±200ppm/°C; Supplier 1: Digi-Key; RoHS: RoHS Compliant; Category: Resistors; Stock 1: 20000; Pricing 1: 10000=0.00198, 30000=0.00174, 50000=0.0016, 100000=0.00156 (USD); Packaging: Tape & Reel (TR); Resistance (Ohms): 36k; Tolerance: ±5%; Composition: Thick Film; Features: Automotive AEC-Q200; Operating Temperature: -55°C ~ 155°C; Package / Case: 0402 (1005 Metric); Supplier Device Package: 0402; Size / Dimension: 0.039" L x 0.020" W (1.00mm x 0.50mm); Height: 0.016" (0.40mm); Number of Terminations: 2; ComponentLink1URL: http://industrial.panasonic.com/www-cgi/jvcr13pz.cgi?E+PZ+3+AOA0001+ERJ2GEJ363X+7+WW; ComponentLink1Description: http://industrial.panasonic.com/www-cgi/jvcr13pz.cgi?E+PZ+3+AOA0001+ERJ2GEJ363X+7+WW; Supplier Part Number 1: P36KJTR-ND
pins: 1, 2

## RES_PANASONIC_ERJ-2RKF2202X
designator R?, comment 22K
RES SMD 22K OHM 1% 1/10W 0402; Manufacturer: Panasonic Electronic Components; Manufacturer Part Number: ERJ-2RKF2202X; Power (Watts): 0.1W, 1/10W; Temperature Coefficient: ±100ppm/°C; Supplier 1: Digi-Key; Supplier Part Number 1: P22.0KLCT-ND; RoHS: RoHS Compliant; Category: Resistors; Stock 1: 557271; Pricing: 1=0.1, 50=0.015, 100=0.011, 250=0.0084, 500=0.00674, 1000=0.00496, 5000=0.00355 (USD); Packaging: Cut Tape (CT); Resistance (Ohms): 22k; Tolerance: ±1%; Composition: Thick Film; Features: Automotive AEC-Q200; Operating Temperature: -55°C ~ 155°C; Package / Case: 0402 (1005 Metric); Supplier Device Package: 0402; Size / Dimension: 0.039" L x 0.020" W (1.00mm x 0.50mm); Height: 0.016" (0.40mm); Number of Terminations: 2; ComponentLink1URL: http://industrial.panasonic.com/www-cgi/jvcr13pz.cgi?E+PZ+3+AOA0002+ERJ2RKF2202X+7+WW; ComponentLink1Description: http://industrial.panasonic.com/www-cgi/jvcr13pz.cgi?E+PZ+3+AOA0002+ERJ2RKF2202X+7+WW
footprint PANASONIC_ERJ2R_SERIES (0402 Resistor)
pins: 1, 2

## RES_PANASONIC_ERJ-2RKF4701X
designator R?, comment 4.7k
RES SMD 4.7K OHM 1% 1/10W 0402; Manufacturer: Panasonic Electronic Components; Manufacturer Part Number: ERJ-2RKF4701X; Power (Watts): 0.1W, 1/10W; Temperature Coefficient: ±100ppm/°C; Supplier 1: Digi-Key; RoHS: RoHS Compliant; Category: Resistors; Stock 1: 2910000; Pricing 1: 10000=0.00281, 30000=0.00247, 50000=0.00226, 100000=0.00222 (USD); Packaging: Tape & Reel (TR); Resistance (Ohms): 4.7k; Tolerance: ±1%; Composition: Thick Film; Features: Automotive AEC-Q200; Operating Temperature: -55°C ~ 155°C; Package / Case: 0402 (1005 Metric); Supplier Device Package: 0402; Size / Dimension: 0.039" L x 0.020" W (1.00mm x 0.50mm); Height: 0.016" (0.40mm); Number of Terminations: 2; ComponentLink1URL: http://industrial.panasonic.com/www-cgi/jvcr13pz.cgi?E+PZ+3+AOA0002+ERJ2RKF4701X+7+WW; ComponentLink1Description: http://industrial.panasonic.com/www-cgi/jvcr13pz.cgi?E+PZ+3+AOA0002+ERJ2RKF4701X+7+WW; Supplier Part Number 1: P4.70KLTR-ND
footprint PANASONIC_ERJ2R_SERIES (0402 Resistor)
pins: 1, 2

## RES_PANASONIC_ERJ-3EKF2202V
designator R?, comment 22K
RES SMD 22K OHM 1% 1/10W 0603; Manufacturer: Panasonic Electronic Components; Manufacturer Part Number: ERJ-3EKF2202V; Power (Watts): 0.1W, 1/10W; Temperature Coefficient: ±100ppm/°C; Supplier 1: Digi-Key; Supplier Part Number 1: P22.0KHCT-ND; RoHS: RoHS Compliant; Category: Resistors; Stock 1: 17812; Pricing: 1=0.1, 50=0.0114, 100=0.0084, 250=0.00644, 500=0.00514, 1000=0.00379 (USD); Packaging: Cut Tape (CT); Resistance (Ohms): 22k; Tolerance: ±1%; Composition: Thick Film; Features: Automotive AEC-Q200; Operating Temperature: -55°C ~ 155°C; Package / Case: 0603 (1608 Metric); Supplier Device Package: 0603; Size / Dimension: 0.063" L x 0.031" W (1.60mm x 0.80mm); Height: 0.022" (0.55mm); Number of Terminations: 2; ComponentLink1URL: http://industrial.panasonic.com/www-cgi/jvcr13pz.cgi?E+PZ+3+AOA0002+ERJ3EKF2202V+7+WW; ComponentLink1Description: http://industrial.panasonic.com/www-cgi/jvcr13pz.cgi?E+PZ+3+AOA0002+ERJ3EKF2202V+7+WW
footprint PANASONIC_ERJ3R (Chip Resistor, 0603)
pins: 1, 2

## RES_PANASONIC_ERJ-3GEYJ103V
designator R?, comment 10K
RES SMD 10K OHM 5% 1/10W 0603; Manufacturer: Panasonic Electronic Components; Manufacturer Part Number: ERJ-3GEYJ103V; Power (Watts): 0.1W, 1/10W; Temperature Coefficient: ±200ppm/°C; Supplier 1: Digi-Key; Supplier Part Number 1: P10KGCT-ND; RoHS: RoHS Compliant; Category: Resistors; Stock 1: 4229597; Pricing: 1=0.1, 50=0.0096, 100=0.0071, 250=0.00544, 500=0.00436, 1000=0.00321 (USD); Packaging: Cut Tape (CT); Resistance (Ohms): 10k; Tolerance: ±5%; Composition: Thick Film; Features: Automotive AEC-Q200; Operating Temperature: -55°C ~ 155°C; Package / Case: 0603 (1608 Metric); Supplier Device Package: 0603; Size / Dimension: 0.063" L x 0.031" W (1.60mm x 0.80mm); Height: 0.022" (0.55mm); Number of Terminations: 2; ComponentLink1URL: http://industrial.panasonic.com/www-cgi/jvcr13pz.cgi?E+PZ+3+AOA0001+ERJ3GEYJ103V+7+WW; ComponentLink1Description: http://industrial.panasonic.com/www-cgi/jvcr13pz.cgi?E+PZ+3+AOA0001+ERJ3GEYJ103V+7+WW
footprint PANASONIC_ERJ3R (Chip Resistor, 0603)
pins: 1, 2

## RES_PANASONIC_ERJ-3GEYJ104V
designator R?, comment 100K
RES SMD 100K OHM 5% 1/10W 0603; Manufacturer: Panasonic Electronic Components; Manufacturer Part Number: ERJ-3GEYJ104V; Power (Watts): 0.1W, 1/10W; Temperature Coefficient: ±200ppm/°C; Supplier 1: Digi-Key; Supplier Part Number 1: P100KGCT-ND; RoHS: RoHS Compliant; Category: Resistors; Stock 1: 1746081; Pricing: 1=0.1, 50=0.0096, 100=0.0071, 250=0.00544, 500=0.00436, 1000=0.00321 (USD); Packaging: Cut Tape (CT); Resistance (Ohms): 100k; Tolerance: ±5%; Composition: Thick Film; Features: Automotive AEC-Q200; Operating Temperature: -55°C ~ 155°C; Package / Case: 0603 (1608 Metric); Supplier Device Package: 0603; Size / Dimension: 0.063" L x 0.031" W (1.60mm x 0.80mm); Height: 0.022" (0.55mm); Number of Terminations: 2; ComponentLink1URL: http://industrial.panasonic.com/www-cgi/jvcr13pz.cgi?E+PZ+3+AOA0001+ERJ3GEYJ104V+7+WW; ComponentLink1Description: http://industrial.panasonic.com/www-cgi/jvcr13pz.cgi?E+PZ+3+AOA0001+ERJ3GEYJ104V+7+WW
footprint PANASONIC_ERJ3R (Chip Resistor, 0603)
pins: 1, 2